# EAGLE library part TPS74401 (library ds_ic_vreg)
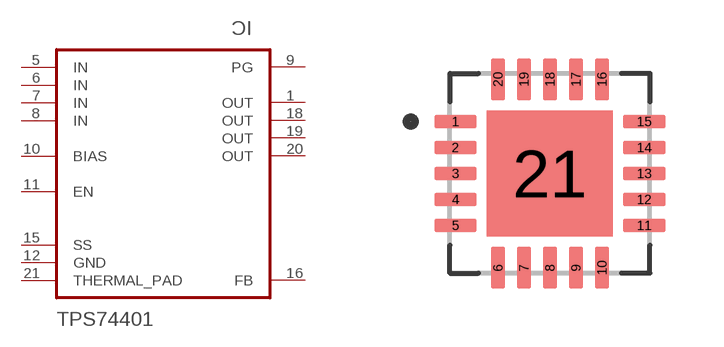
[diagram p11: symbol with the pads of VQFN20-5X5; footprint VQFN20-5X5]

Designator prefix IC

## TPS74401RGWT (DATASHEET: https://www.ti.com/lit/ds/symlink/tps74401.pdf?HQS=dis-dk-null-digikeymode-dsf-pf-null-wwe&ts=1748791211699&ref_url=https%253A%252F%252Fwww.ti.com%252Fgeneral%252Fdocs%252Fsuppproductinfo.tsp%253FdistId%253D10%2526gotoUrl%253Dhttps%253A%252F%252Fwww.ti.com%252Flit%252Fgpn%252Ftps74401; DESCRIPTION: 68dB@(120Hz) 3A Adjustable 800mV~3.6V Positive electrode 5.5V VQFN-20-EP(5x5) Voltage Regulators - Linear, Low Drop Out (LDO) Regulators ROHS; LCSC_PART: C840108; VALUE: TPS74401RGWT)  [VQFN20-5X5]
1  OUT  out
5  IN  in
6  IN  in
7  IN  in
8  IN  in
9  PG  out
10  BIAS  in
11  EN
12  GND  pwr
15  SS
16  FB
18  OUT  out
19  OUT  out
20  OUT  out
21  THERMAL_PAD

## Footprint VQFN20-5X5 (pad centres in mm)
smd 1.05 x 0.34: 1 -2.36,1.3; 2 -2.36,0.65; 3 -2.36,0; 4 -2.36,-0.65; 5 -2.36,-1.3; 11 2.36,-1.3; 12 2.36,-0.65; 13 2.36,0; 14 2.36,0.65; 15 2.36,1.3
smd 0.34 x 1.05: 6 -1.3,-2.36; 7 -0.65,-2.36; 8 0,-2.36; 9 0.65,-2.36; 10 1.3,-2.36; 16 1.3,2.36; 17 0.65,2.36; 18 0,2.36; 19 -0.65,2.36; 20 -1.3,2.36
smd 3.15 x 3.15: 21 0,0